# Altium footprint library PcbLib.PcbLib: 65 footprints (part 3 of 5)
Each footprint in its own frame and in the unit in brackets; x right, y up, seen from the top. Pads: shape width x height; smd on the part's side, far side on the other; paste and mask are expansions set on the pad; w line width, h text height; cw(c..) or ccw(c..) is an arc to the next point about the centre after c.
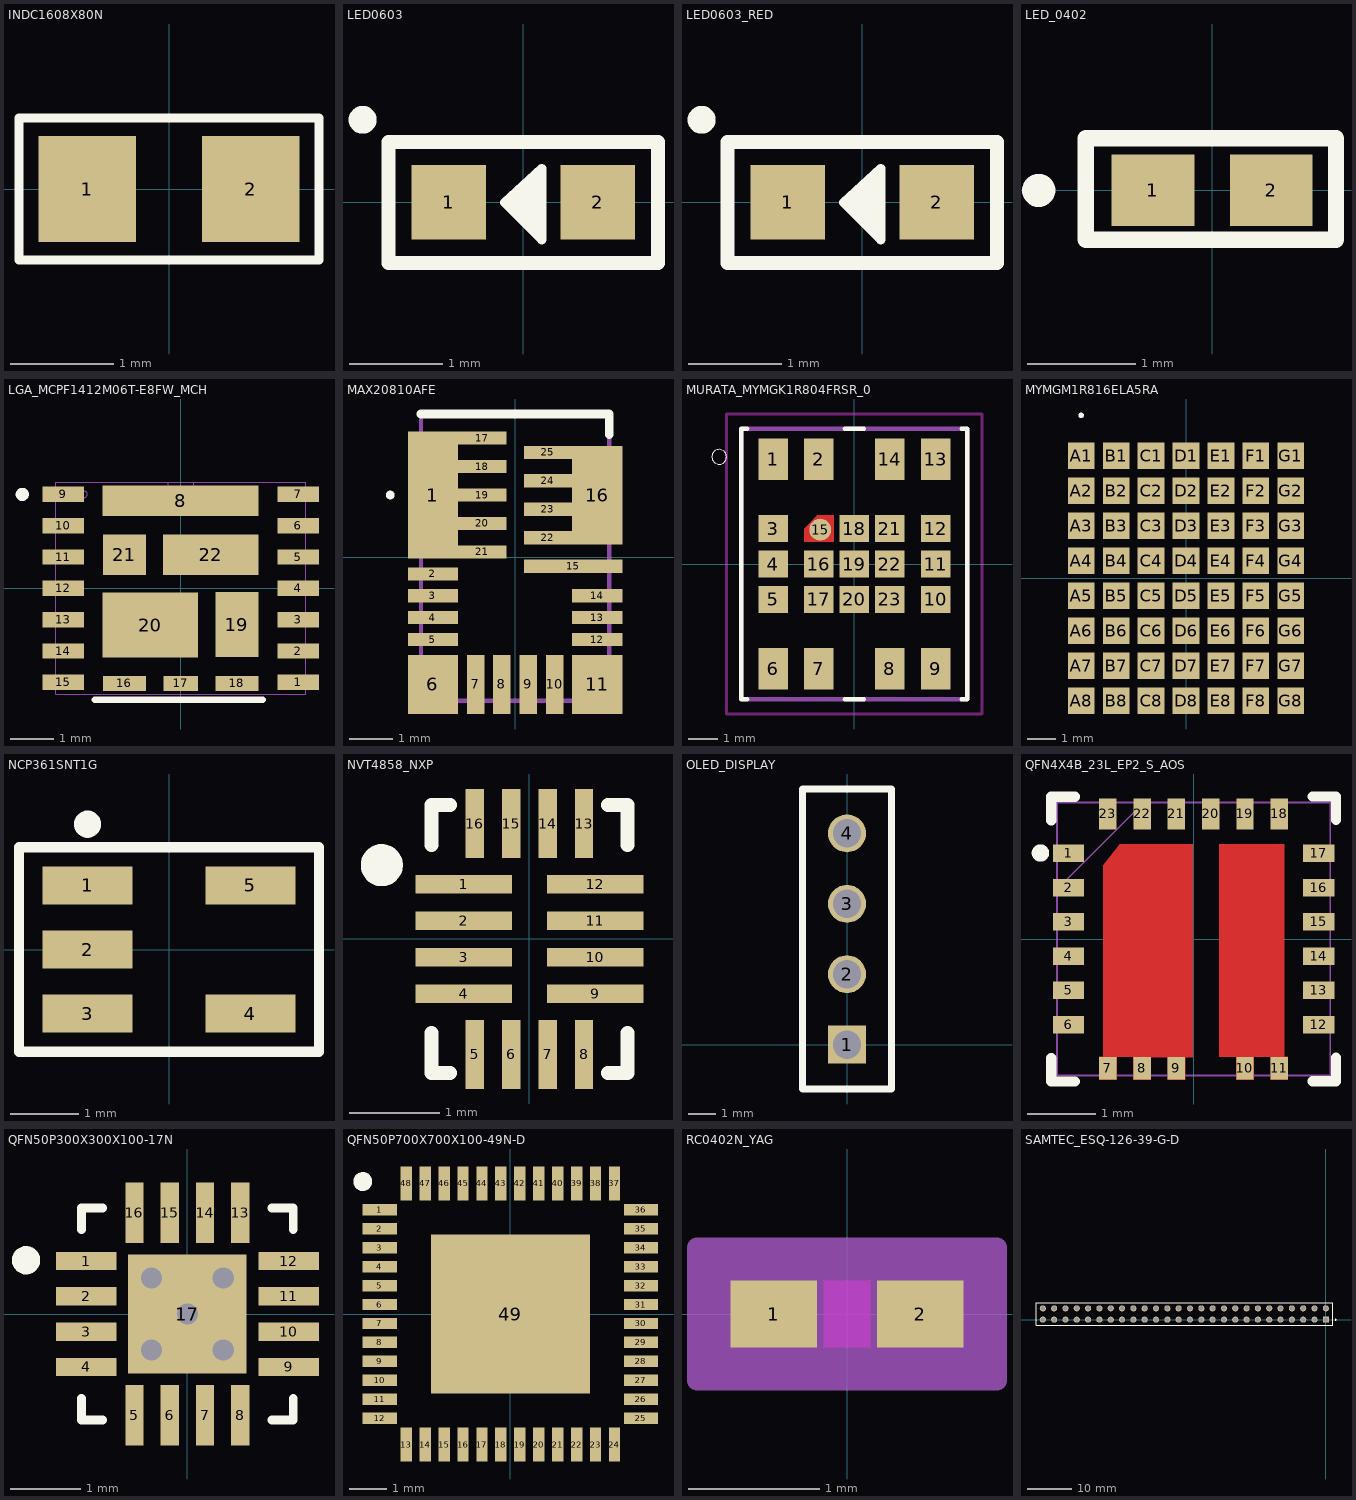
[diagram p2: the footprints below, top view; thin cyan lines are the x and y axes]

## INDC1608X80N [mm]
pads (2):
  rect 0.94x1.02 smd: 1(-0.79,0) 2(0.79,0)
Top Overlay:
  lines w0.089: -1.448,-0.686 -1.448,0.686 1.448,0.686 1.448,-0.686 -1.448,-0.686
3D body "DFE18SAN1R0ME0L.step": height 0.8, standoff 0, extent -0.847,-0.413 0.753,0.387

## LED0603 [mm]
height 0.7
pads (2):
  rect 0.8x0.8 smd: 1(-0.8,0) 2(0.8,0)
Top Overlay:
  circle w0.2: c-1.727,0.889 r0.05
  region: 0.2,0 0.2,-0.365 -0.165,0
  region: 0.2,0 -0.165,0 0.2,0.365
  lines w0.1: 0.2,0 -0.2,0 ; -0.2,0 0.2,-0.4 0.2,0.365 -0.2,0
  lines w0.152: -1.45,-0.65 -1.45,0.65 1.45,0.65 1.45,-0.65 -1.45,-0.65
3D body "User Library-LTST-C190GKT.STEP": height 0.9, standoff 0, extent -0.85,-0.45 0.85,0.45

## LED0603_RED [mm]
height 0.7
pads (2):
  rect 0.8x0.8 smd: 1(-0.8,0) 2(0.8,0)
Top Overlay:
  circle w0.2: c-1.727,0.889 r0.05
  region: 0.2,0 -0.165,0 0.2,0.365
  region: 0.2,0 0.2,-0.365 -0.165,0
  lines w0.1: 0.2,0 -0.2,0 ; -0.2,0 0.2,0.365 0.2,-0.4 -0.2,0
  lines w0.152: -1.45,-0.65 1.45,-0.65 1.45,0.65 -1.45,0.65 -1.45,-0.65
3D body "User Library-LTST-C190GKT.STEP": height 0.9, standoff 0, extent -0.85,-0.45 0.85,0.45

## LED_0402 [mil]
pads (2):
  rect 30x26 smd paste+0 mask+0: 1(-21.5,0) 2(21.5,0)
Top Overlay:
  circle w10: c-63,0 r1
  lines w5.98: -46,-18 45,-18 45,19 -46,19 -46,-18
3D body "SML-P11MTT86--3DModel-STEP-56544.STEP": height 12.2, standoff 2.36, extent -19.68,-11.81 19.68,11.81

## LGA_MCPF1412M06T-E8FW_MCH [mil]
pads (22):
  rect 38x14 smd paste+0 mask+0: 1(107,-85.63) 2(107,-57.09) 3(107,-28.54) 4(107,0) 5(107,28.54) 6(107,57.09) 7(107,85.63) 9(-107,85.63) 10(-107,57.09) 11(-107,28.54) 12(-107,0) 13(-107,-28.54) 14(-107,-57.09) 15(-107,-85.63)
  rect 142x28 smd paste+0 mask+0: 8(0,79.72)
  rect 39.37x13.78 smd paste-19.68 mask-19.5: 16(-51.18,-86.61) 18(51.18,-86.61)
  rect 31.5x13.78 smd paste-15.75 mask-15.5: 17(0,-86.61)
  rect 39.37x59.05 smd paste-29.53 mask-29.5: 19(51.18,-33)
  rect 87x59 smd paste+0 mask+0: 20(-27.56,-33.46)
  rect 39x37 smd paste+0 mask+0: 21(-51.18,30.51)
  rect 87x37 smd paste-43.5 mask-43.5: 22(27.56,30.51)
Top Overlay:
  circle w6: c-144.27,85.63 r3
  lines w6: -78.36,-101.5 74.9,-101.5
Mechanical 13:
  circle w0: c-88,85.63 r3
  lines w0: -12,96.5 ccw(c0,96.5) 12,96.5
  lines w1: -114,-96.5 114,-96.5 114,96.5 -114,96.5 -114,-96.5
3D body "MCPF1412M06T-E_8FW.stp": height 67.66, standoff 0.14, extent -114.17,-96.46 114.17,96.46

## MAX20810AFE [mm]
pads (25):
  rect 1.15x2.9 smd: 1(-1.875,1.425)
  rect 1.15x0.3 smd: 2(-1.875,-0.375) 3(-1.875,-0.875) 4(-1.875,-1.375) 5(-1.875,-1.875) 12(1.875,-1.875) 13(1.875,-1.375) 14(1.875,-0.875)
  rect 1.15x1.35 smd: 6(-1.875,-2.9) 11(1.875,-2.9)
  rect 0.4x1.35 smd: 7(-0.9,-2.9) 8(-0.3,-2.9) 9(0.3,-2.9) 10(0.9,-2.9)
  rect 2.25x0.3 smd: 15(1.325,-0.2)
  rect 1.15x2.25 smd: 16(1.875,1.425)
  rect 1.1x0.3 smd: 17(-0.75,2.725) 18(-0.75,2.075) 19(-0.75,1.425) 20(-0.75,0.775) 21(-0.75,0.125) 22(0.75,0.45) 23(0.75,1.1) 24(0.75,1.75) 25(0.75,2.4)
Top Overlay:
  lines w0.1: -2.9,1.425 ccw(c-2.85,1.425) -2.8,1.425 ccw(c-2.85,1.425) -2.9,1.425
  lines w0.2: -2.15,3.275 2.15,3.275 2.15,2.8
Mechanical 13:
  lines w0.1: -2.15,-3.275 -2.15,3.275 2.15,3.275 2.15,-3.275 -2.15,-3.275
3D body "MAX20810AFE+.stp": height 0.69, standoff -0.01, extent -2.154,-3.228 2.152,3.325

## MURATA_MYMGK1R804FRSR_0 [mm]
pads (23):
  rect 1x1.4 smd paste+0 mask+0.102: 1(-2.75,3.55) 2(-1.2,3.55) 6(-2.75,-3.55) 7(-1.2,-3.55) 8(1.2,-3.55) 9(2.75,-3.55) 13(2.75,3.55) 14(1.2,3.55)
  rect 1x0.9 smd paste+0 mask+0.102: 3(-2.75,1.2) 4(-2.75,0) 5(-2.75,-1.2) 10(2.75,-1.2) 11(2.75,0) 12(2.75,1.2) 16(-1.2,0) 17(-1.2,-1.2) 18(0,1.2) 19(0,0) 20(0,-1.2) 21(1.2,1.2) 22(1.2,0) 23(1.2,-1.2)
  round 0.741 smd paste-1 mask+0: 15(-1.156,1.162)
Top Layer:
  region: -0.7,0.75 -1.7,0.75 -1.7,1.2 -1.25,1.65 -0.7,1.65
Top Overlay:
  circle w0: c-4.575,3.625 r0.25
  lines w0.15: -3.625,-4.575 -3.825,-4.575 -3.825,4.575 -3.625,4.575 ; -0.325,-4.575 0.325,-4.575 ; -0.325,4.575 0.325,4.575 ; 3.625,-4.575 3.825,-4.575 3.825,4.575 3.625,4.575
Top Paste:
  region: -0.7,0.75 -1.7,0.75 -1.7,1.2 -1.25,1.65 -0.7,1.65
Top Solder:
  region: -0.7,0.75 -1.7,0.75 -1.7,1.2 -1.25,1.65 -0.7,1.65
Keep-Out Layer:
  lines w0.1: -4.325,-5.075 -4.325,5.075 4.325,5.075 4.325,-5.075 -4.325,-5.075
Mechanical 13:
  lines w0.15: -3.825,-4.575 -3.825,4.575 3.825,4.575 3.825,-4.575 -3.825,-4.575
3D body "MYMGK1R804FRSR.STEP": height 5, standoff 0, extent -3.748,-4.501 3.752,4.499

## MYMGM1R816ELA5RA [mm]
pads (56):
  rect 0.95x0.95 smd: A1(-3.75,4.375) A2(-3.75,3.125) A3(-3.75,1.875) A4(-3.75,0.625) A5(-3.75,-0.625) A6(-3.75,-1.875) A7(-3.75,-3.125) A8(-3.75,-4.375) B1(-2.5,4.375) B2(-2.5,3.125) B3(-2.5,1.875) B4(-2.5,0.625) B5(-2.5,-0.625) B6(-2.5,-1.875) B7(-2.5,-3.125) B8(-2.5,-4.375) C1(-1.25,4.375) C2(-1.25,3.125) C3(-1.25,1.875) C4(-1.25,0.625) C5(-1.25,-0.625) C6(-1.25,-1.875) C7(-1.25,-3.125) C8(-1.25,-4.375) D1(0,4.375) D2(0,3.125) D3(0,1.875) D4(0,0.625) D5(0,-0.625) D6(0,-1.875) D7(0,-3.125) D8(0,-4.375) E1(1.25,4.375) E2(1.25,3.125) E3(1.25,1.875) E4(1.25,0.625) E5(1.25,-0.625) E6(1.25,-1.875) E7(1.25,-3.125) E8(1.25,-4.375) F1(2.5,4.375) F2(2.5,3.125) F3(2.5,1.875) F4(2.5,0.625) F5(2.5,-0.625) F6(2.5,-1.875) F7(2.5,-3.125) F8(2.5,-4.375) G1(3.75,4.375) G2(3.75,3.125) G3(3.75,1.875) G4(3.75,0.625) G5(3.75,-0.625) G6(3.75,-1.875) G7(3.75,-3.125) G8(3.75,-4.375)
Top Overlay:
  lines w0.1: -3.75,5.775 ccw(c-3.75,5.825) -3.75,5.875 ccw(c-3.75,5.825) -3.75,5.775
3D body "MYMGM1R816ELA5RA.stp": height 5.1, standoff 0, extent -4.5,-5.25 4.5,5.25

## NCP361SNT1G [mil] "done"
pads (5):
  rect 52x22 smd: 1(-47,37) 2(-47,0) 3(-47,-37) 4(47,-37) 5(47,37)
Top Overlay:
  lines w5.98: -83.6,59 -14,59 ; -14,-59 -86.61,-59 -86.61,59 86.6,59 86.6,-59.02 14,-59
  lines w6: -14,-59 14,-59 ; -14,59 14,59
  lines w10: -44.21,72.26 cw(c-47.03,72.38) -44.21,72.53
3D body "NCP361SNT1G.STEP": height 43.31, standoff 0, extent -52.73,-58.59 55.54,59.52

## NVT4858_NXP [mil]
pads (16):
  rect 42x8 smd paste+0 mask+0: 1(-28.5,23.63) 2(-28.5,7.88) 3(-28.5,-7.88) 4(-28.5,-23.63) 9(28.5,-23.63) 10(28.5,-7.88) 11(28.5,7.88) 12(28.5,23.63)
  rect 8x30 smd paste+0 mask+0: 5(-23.62,-50) 6(-7.88,-50) 7(7.88,-50) 8(23.62,-50) 13(23.62,50) 14(7.88,50) 15(-7.88,50) 16(-23.62,50)
Top Overlay:
  circle w10: c-64,32 r4.12
  lines w6: -42.5,-40.73 -42.5,-58 -34.5,-58 ; -42.5,40.73 -42.5,58 -34.5,58 ; 34,-58 42.5,-58 42.5,-40.73 ; 34,58 42.5,58 42.5,40.73
3D body "NVT4858_NXP.step": height 20.12, standoff 0, extent -37.48,-52.99 37.48,52.99

## OLED_DISPLAY [mm]
height 10.16
pads (4):
  rect 1.37x1.37 hole 1.02: 1(0,0)
  round 1.37 hole 1.02: 2(0,2.54) 3(0,5.08) 4(0,7.62)
Top Overlay:
  lines w0.254: -1.6,-1.6 -1.6,9.22 1.6,9.22 1.6,-1.6 -1.6,-1.6
3D body "OLED 128 x 32 Display Assembly.step": height 5.59, standoff -5.67, extent -1.269,-2.187 36.731,9.813

## QFN4X4B_23L_EP2_S_AOS [mil]
pads (23):
  rect 18x10 smd paste+0 mask+0: 1(-71.85,49.25) 2(-71.85,29.55) 3(-71.85,9.85) 4(-71.85,-9.85) 5(-71.85,-29.55) 6(-71.85,-49.25) 12(71.85,-49.25) 13(71.85,-29.55) 14(71.85,-9.85) 15(71.85,9.85) 16(71.85,29.55) 17(71.85,49.25)
  rect 10x13 smd paste-6.5 mask-6.5: 7(-49.25,-74.35) 8(-29.55,-74.35) 9(-9.85,-74.35) 10(29.55,-74.35) 11(49.25,-74.35)
  rect 10x18 smd paste+0 mask+0: 18(49.25,71.85) 19(29.55,71.85) 20(9.85,71.85) 21(-9.85,71.85) 22(-29.55,71.85) 23(-49.25,71.85)
Top Layer:
  region: -0.4,54.45 -42.5,54.45 -51.85,42.5 -51.85,-67.55 -54.25,-67.55 -54.25,-80.85 -44.25,-80.85 -44.25,-67.85 -34.55,-67.55 -34.55,-80.85 -24.55,-80.85 -24.55,-67.85 -14.85,-67.85 -14.85,-80.85 -4.85,-80.85 -4.85,-67.85 -0.4,-67.85
  region: 14.85,54.45 14.85,-67.55 24.55,-67.55 24.55,-80.85 34.55,-80.85 34.55,-67.55 44.25,-67.55 44.25,-80.85 54.25,-80.85 54.25,-67.55 52.25,-67.55 52.25,54.45
Top Overlay:
  circle w5: c-88.05,49.42 r2.5
  lines w6: -81.88,68.35 -81.88,81.85 -68.38,81.85 ; -81.86,-68.38 -81.86,-81.88 -68.36,-81.88 ; 68.34,-81.86 81.84,-81.86 81.84,-68.36 ; 68.35,81.88 81.85,81.88 81.85,68.38
Top Paste:
  region: -0.4,54.45 -42.5,54.45 -51.85,42.5 -51.85,-67.55 -54.25,-67.55 -54.25,-80.85 -44.25,-80.85 -44.25,-67.85 -34.55,-67.55 -34.55,-80.85 -24.55,-80.85 -24.55,-67.85 -14.85,-67.85 -14.85,-80.85 -4.85,-80.85 -4.85,-67.85 -0.4,-67.85
  region: 14.85,54.45 14.85,-67.55 24.55,-67.55 24.55,-80.85 34.55,-80.85 34.55,-67.55 44.25,-67.55 44.25,-80.85 54.25,-80.85 54.25,-67.55 52.25,-67.55 52.25,54.45
Top Solder:
  region: 14.85,54.45 14.85,-67.55 24.55,-67.55 24.55,-80.85 34.55,-80.85 34.55,-67.55 44.25,-67.55 44.25,-80.85 54.25,-80.85 54.25,-67.55 52.25,-67.55 52.25,54.45
  region: -0.4,54.45 -42.5,54.45 -51.85,42.5 -51.85,-67.55 -54.25,-67.55 -54.25,-80.85 -44.25,-80.85 -44.25,-67.85 -34.55,-67.55 -34.55,-80.85 -24.55,-80.85 -24.55,-67.85 -14.85,-67.85 -14.85,-80.85 -4.85,-80.85 -4.85,-67.85 -0.4,-67.85
Mechanical 13:
  lines w1: -78.5,28.5 -28.5,78.5 ; -78.5,-78.5 -78.5,78.5 78.5,78.5 78.5,-78.5 -78.5,-78.5
  text "*" at -65.35,34.1 h50
3D body "RGE0024B.stp": height 39.37, standoff 0, extent -78.74,-78.74 78.74,78.74

## QFN50P300X300X100-17N [mm]
pads (17):
  rect 0.86x0.26 smd: 1(-1.435,0.75) 2(-1.435,0.25) 3(-1.435,-0.25) 4(-1.435,-0.75) 9(1.435,-0.75) 10(1.435,-0.25) 11(1.435,0.25) 12(1.435,0.75)
  rect 0.26x0.86 smd: 5(-0.75,-1.435) 6(-0.25,-1.435) 7(0.25,-1.435) 8(0.75,-1.435) 13(0.75,1.435) 14(0.25,1.435) 15(-0.25,1.435) 16(-0.75,1.435)
  rect 1.68x1.68 smd paste-2: 17(0,0)
via 0,0 diameter 0.45 hole 0.3
via 0.508,-0.508 diameter 0.45 hole 0.3
via -0.508,-0.508 diameter 0.45 hole 0.3
via 0.508,0.508 diameter 0.45 hole 0.3
via -0.508,0.508 diameter 0.45 hole 0.3
Top Overlay:
  circle w0.2: c-2.286,0.762 r0.1
  lines w0.127: -1.5,-1.2 -1.5,-1.5 -1.2,-1.5 ; -1.5,1.2 -1.5,1.5 -1.2,1.5 ; 1.2,-1.5 1.5,-1.5 1.5,-1.2 ; 1.2,1.5 1.5,1.5 1.5,1.2
Top Paste:
  region: 0.53,-0.53 -0.53,-0.53 -0.53,0.53 0.53,0.53
3D body "step_temp.STEP": height 1, standoff 0, extent -1.5,-1.5 1.5,1.5

## QFN50P700X700X100-49N-D [mm]
pads (49):
  rect 0.9x0.3 smd: 1(-3.45,2.75) 2(-3.45,2.25) 3(-3.45,1.75) 4(-3.45,1.25) 5(-3.45,0.75) 6(-3.45,0.25) 7(-3.45,-0.25) 8(-3.45,-0.75) 9(-3.45,-1.25) 10(-3.45,-1.75) 11(-3.45,-2.25) 12(-3.45,-2.75) 25(3.45,-2.75) 26(3.45,-2.25) 27(3.45,-1.75) 28(3.45,-1.25) 29(3.45,-0.75) 30(3.45,-0.25) 31(3.45,0.25) 32(3.45,0.75) 33(3.45,1.25) 34(3.45,1.75) 35(3.45,2.25) 36(3.45,2.75)
  rect 0.3x0.9 smd: 13(-2.75,-3.45) 14(-2.25,-3.45) 15(-1.75,-3.45) 16(-1.25,-3.45) 17(-0.75,-3.45) 18(-0.25,-3.45) 19(0.25,-3.45) 20(0.75,-3.45) 21(1.25,-3.45) 22(1.75,-3.45) 23(2.25,-3.45) 24(2.75,-3.45) 37(2.75,3.45) 38(2.25,3.45) 39(1.75,3.45) 40(1.25,3.45) 41(0.75,3.45) 42(0.25,3.45) 43(-0.25,3.45) 44(-0.75,3.45) 45(-1.25,3.45) 46(-1.75,3.45) 47(-2.25,3.45) 48(-2.75,3.45)
  rect 4.2x4.2 smd: 49(0,0)
Top Overlay:
  circle w0.25: c-3.9,3.5 r0.125
3D body "RGZ0048B.stp": height 1, standoff 0, extent -3.5,-3.5 3.5,3.5

## RC0402N_YAG [mil]
pads (2):
  rect 26x20 smd paste+0 mask+0: 1(-22,0) 2(22,0)
Top Layer keep-out:
  region: -7,-8 -7,8 7,8 7,-8
Keep-Out Layer:
  region: -7,-10 -7,10 7,10 7,-10
Mechanical 13:
  lines w1: -21,-10 -21,10 ; -21,-10 21,-10 ; -21,-10 -9,-10 -9,10 -21,10 ; -21,-10 -21,10 ; -21,10 21,10 ; 21,-10 21,10 ; 21,-10 21,10 ; 21,-10 9,-10 9,10 21,10
Mechanical 15:
  region: 45,-20 -45,-20 -45,20 45,20
  lines w6: -45,-20 45,-20 45,20 -45,20 -45,-20
3D body "RC0402N_YAG.step": height 27.99, standoff 0, extent -20.98,-10 20.98,10

## SAMTEC_ESQ-126-39-G-D [mm]
pads (52):
  rect 1.37x1.37 hole 1.02: 01(0,0)
  round 1.37 hole 1.02: 02(0,2.54) 03(-2.54,0) 04(-2.54,2.54) 05(-5.08,0) 06(-5.08,2.54) 07(-7.62,0) 08(-7.62,2.54) 09(-10.16,0) 10(-10.16,2.54) 11(-12.7,0) 12(-12.7,2.54) 13(-15.24,0) 14(-15.24,2.54) 15(-17.78,0) 16(-17.78,2.54) 17(-20.32,0) 18(-20.32,2.54) 19(-22.86,0) 20(-22.86,2.54) 21(-25.4,0) 22(-25.4,2.54) 23(-27.94,0) 24(-27.94,2.54) 25(-30.48,0) 26(-30.48,2.54) 27(-33.02,0) 28(-33.02,2.54) 29(-35.56,0) 30(-35.56,2.54) 31(-38.1,0) 32(-38.1,2.54) 33(-40.64,0) 34(-40.64,2.54) 35(-43.18,0) 36(-43.18,2.54) 37(-45.72,0) 38(-45.72,2.54) 39(-48.26,0) 40(-48.26,2.54) 41(-50.8,0) 42(-50.8,2.54) 43(-53.34,0) 44(-53.34,2.54) 45(-55.88,0) 46(-55.88,2.54) 47(-58.42,0) 48(-58.42,2.54) 49(-60.96,0) 50(-60.96,2.54) 51(-63.5,0) 52(-63.5,2.54)
Top Overlay:
  circle w0.2: c2.175,0 r0.1
  lines w0.2: -65.025,-1.205 -65.025,3.745 1.525,3.745 1.525,-1.205 -65.025,-1.205
3D body "ESQ-126-39-G-D.stp": height 11.05, standoff -12.19, extent -65.024,-1.27 1.524,3.81